# Altium schematic symbol library CBB21.SchLib: 1 symbol
Pins are listed as number, name and electrical type; pins without a type are passive.

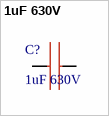
[diagram p0: symbol 1uF 630V]

## 1uF 630V
designator C?
footprint 29_22,5_13,5_27,5_0,8
pins: 1, 2